# EAGLE library part CD40109B (library ti)
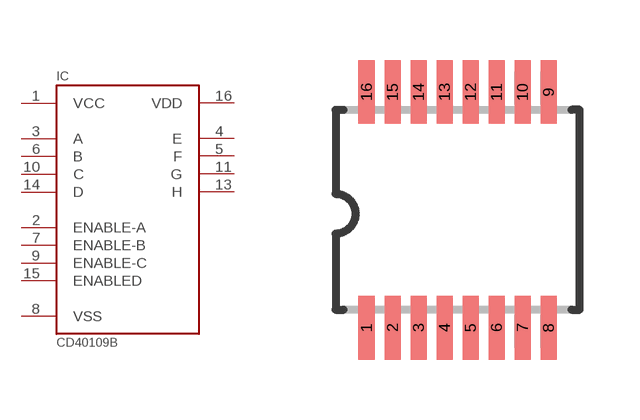
[diagram p0: symbol with the pads of TSSOP16; footprint TSSOP16]

Designator prefix IC

## CD40109B  [TSSOP16]
1  VCC  pwr
2  ENABLE-A  in
3  A  in
4  E  hiz
5  F  hiz
6  B  in
7  ENABLE-B  in
8  VSS  pwr
9  ENABLE-C  in
10  C  in
11  G  hiz
13  H  hiz
14  D  in
15  ENABLED  in
16  VDD

## Footprint TSSOP16 (pad centres in mm)
TSOP16 thin small outline package
smd 0.4 x 1.6: 1 -2.225,-2.85; 2 -1.575,-2.85; 3 -0.925,-2.85; 4 -0.275,-2.85; 5 0.375,-2.85; 6 1.025,-2.85; 7 1.675,-2.85; 8 2.325,-2.85; 9 2.325,3.05; 10 1.675,3.05; 11 1.025,3.05; 12 0.375,3.05; 13 -0.275,3.05; 14 -0.925,3.05; 15 -1.575,3.05; 16 -2.225,3.05